# Altium schematic symbol library FA26X7R2A334KNU00.SchLib: 1 symbol
Pins are listed as number, name and electrical type; pins without a type are passive.

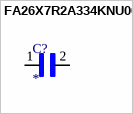
[diagram p0: symbol FA26X7R2A334KNU00]

## FA26X7R2A334KNU00
designator C?
MF: {'manufacturer': u'TDK'}; MP: FA26X7R2A334KNU00; Value: *; Package: None; Availability: Unavailable; Price: None
footprint CAPRB500W50L550T350H600
pins: 1, 2